# Altium schematic symbol library 3ConnectorRHS.SchLib: 1 symbol
Pins are listed as number, name and electrical type; pins without a type are passive.

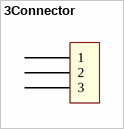
[diagram p0: symbol 3Connector]

## 3Connector
designator *, comment *?  (value not drawn)
footprint 2Connector
pins: 1, 2, 3